# EAGLE library part SA818 (library nicerf)
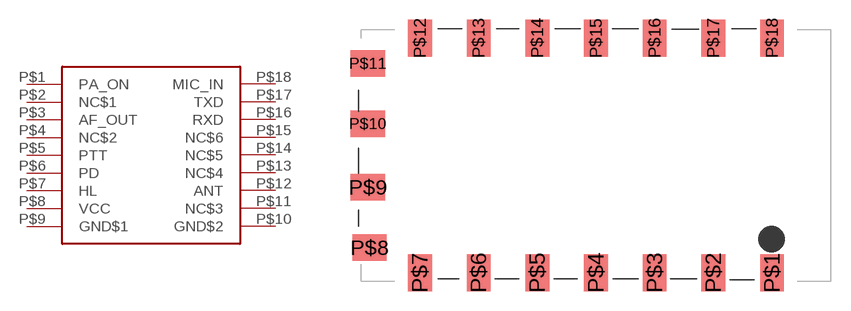
[diagram p0: symbol with the pads of SA818; footprint SA818]

Designator prefix -

## SA818  [SA818]
P$1  PA_ON
P$2  NC$1
P$3  AF_OUT
P$4  NC$2
P$5  PTT
P$6  PD
P$7  HL
P$8  VCC
P$9  GND$1
P$10  GND$2
P$11  NC$3
P$12  ANT
P$13  NC$4
P$14  NC$5
P$15  NC$6
P$16  RXD
P$17  TXD
P$18  MIC_IN

## Footprint SA818 (pad centres in mm)
smd 1.8 x 2.8: P$1 13.35,-9.525; P$2 8.9,-9.525; P$3 4.45,-9.525; P$4 0,-9.525; P$5 -4.45,-9.525; P$6 -8.9,-9.525; P$7 -13.35,-9.525; P$12 -13.35,8.275; P$13 -8.9,8.275; P$14 -4.45,8.275; P$15 0,8.275; P$16 4.45,8.275; P$17 8.9,8.275; P$18 13.35,8.275
smd 2.6 x 2: P$8 -17.175,-7.625; P$9 -17.3,-3.043; P$10 -17.31,1.778; P$11 -17.31,6.355